# EAGLE library part POLOLU_MD15B (library VehicleDriverParts)
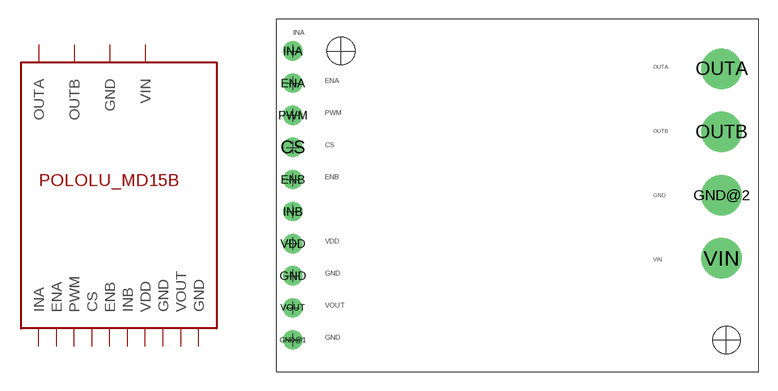
[diagram p0: symbol with the pads of POLOLU_MD15B; footprint POLOLU_MD15B]

Designator prefix -

## POLOLU_MD15B  [POLOLU_MD15B]
CS  CS  in
ENA  ENA  in
ENB  ENB  in
GND  GND
GND@1  GND
GND@2  GND
INA  INA  in
INB  INB  in
OUTA  OUTA  out
OUTB  OUTB  out
PWM  PWM
VDD  VDD  in
VIN  VIN  in
VOUT  VOUT

## Footprint POLOLU_MD15B (pad centres in mm)
drill 1.016: CS 1.27,17.78; ENA 1.27,22.86; ENB 1.27,15.24; GND 1.27,7.62; GND@1 1.27,2.54; INA 1.27,25.4; INB 1.27,12.7; PWM 1.27,20.32; VDD 1.27,10.16; VOUT 1.27,5.08
drill 2.18: GND@2 35.17,14; OUTA 35.18,24; OUTB 35.17,19; VIN 35.18,9
hole 2.18 at 5.08,25.4
hole 2.18 at 35.56,2.54